# EAGLE library part ADG608BNZ (library ADG608BNZ)
ADG608BNZ, Multiplexer Single 8:1, 3 V, 5 V, 16-Pin, PDIP, 1 Source: Datasheet <https://datasheet.datasheetarchive.com/originals/distributors/Datasheets-4/DSA-69217.pdf>
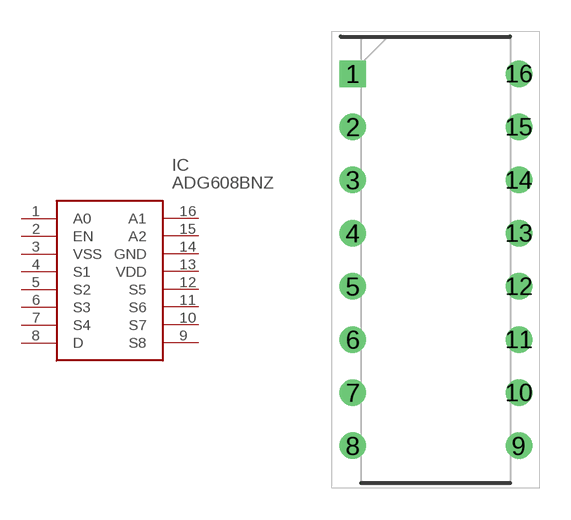
[diagram p0: symbol with the pads of DIP794W56P254L2013H533Q16N; footprint DIP794W56P254L2013H533Q16N]

Designator prefix IC

## ADG608BNZ (Arrow_Part_Number: ADG608BNZ; Arrow_Price-Stock: https://www.arrow.com/en/products/adg608bnz/analog-devices; Description: ADG608BNZ, Multiplexer Single 8:1, 3 V, 5 V, 16-Pin, PDIP, 1; Height: 5.33mm; Manufacturer_Name: Analog Devices; Manufacturer_Part_Number: ADG608BNZ; Mouser_Part_Number: 584-ADG608BNZ; Mouser_Price-Stock: https://www.mouser.co.uk/ProductDetail/Analog-Devices/ADG608BNZ?qs=BpaRKvA4VqEMocC5Onmubw%3D%3D)  [DIP794W56P254L2013H533Q16N]
1  A0
2  EN
3  VSS
4  S1
5  S2
6  S3
7  S4
8  D
9  S8
10  S7
11  S6
12  S5
13  VDD
14  GND
15  A2
16  A1

## Footprint DIP794W56P254L2013H533Q16N (pad centres in mm)
16-Pin Plastic DIP
drill 0.758 pad 1.158 square: 1 -3.968,8.89
drill 0.758 pad 1.158: 2 -3.968,6.35; 3 -3.968,3.81; 4 -3.968,1.27; 5 -3.968,-1.27; 6 -3.968,-3.81; 7 -3.968,-6.35; 8 -3.968,-8.89; 9 3.968,-8.89; 10 3.968,-6.35; 11 3.968,-3.81; 12 3.968,-1.27; 13 3.968,1.27; 14 3.968,3.81; 15 3.968,6.35; 16 3.968,8.89